# Altium footprint library 47553-0001.PcbLib: 1 footprints
Each footprint in its own frame and in the unit in brackets; x right, y up, seen from the top. Pads: shape width x height; smd on the part's side, far side on the other; paste and mask are expansions set on the pad; w line width, h text height; cw(c..) or ccw(c..) is an arc to the next point about the centre after c.
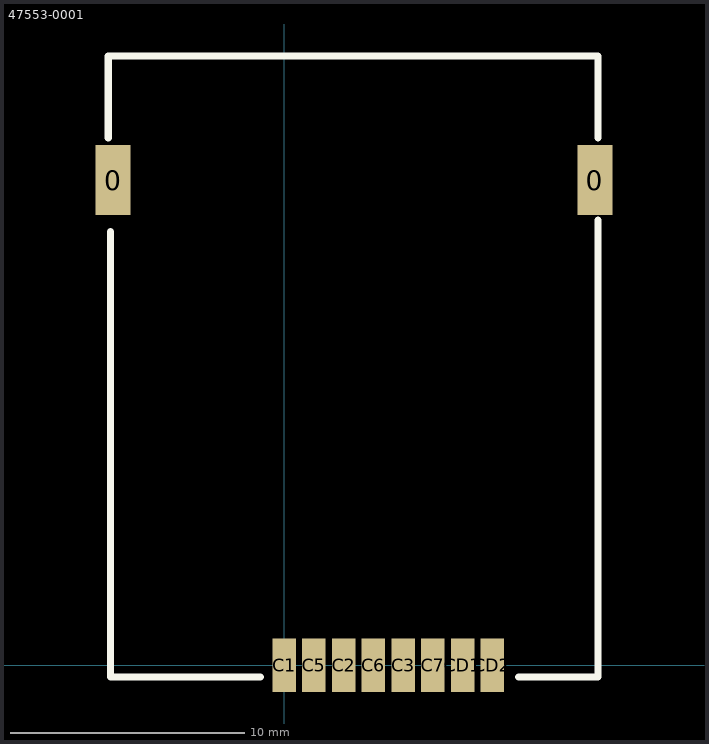
[diagram p0: the footprint, top view; thin cyan lines are the x and y axes]

## 47553-0001 [mm]
pads (10):
  rect 1.5x3 smd: 0(-7.29,20.7) 0(13.26,20.7)
  rect 1x2.3 smd: C1(0,0) C2(2.54,0) C3(5.08,0) C5(1.27,0) C6(3.81,0) C7(6.35,0) CD1(7.62,0) CD2(8.89,0)
Top Overlay:
  lines w0.3: -7.5,22.5 -7.5,26 13.4,26 13.4,22.5 ; -7.4,18.5 -7.4,-0.5 -1,-0.5 ; 10,-0.5 13.4,-0.5 13.4,19
3D body: height 1.94, standoff 0.11, extent -7.475,-0.5 13.475,26